# Altium footprint library PC110.PcbLib: 67 footprints (part 5 of 5)
Each footprint in its own frame and in the unit in brackets; x right, y up, seen from the top. Pads: shape width x height; smd on the part's side, far side on the other; paste and mask are expansions set on the pad; w line width, h text height; cw(c..) or ccw(c..) is an arc to the next point about the centre after c.
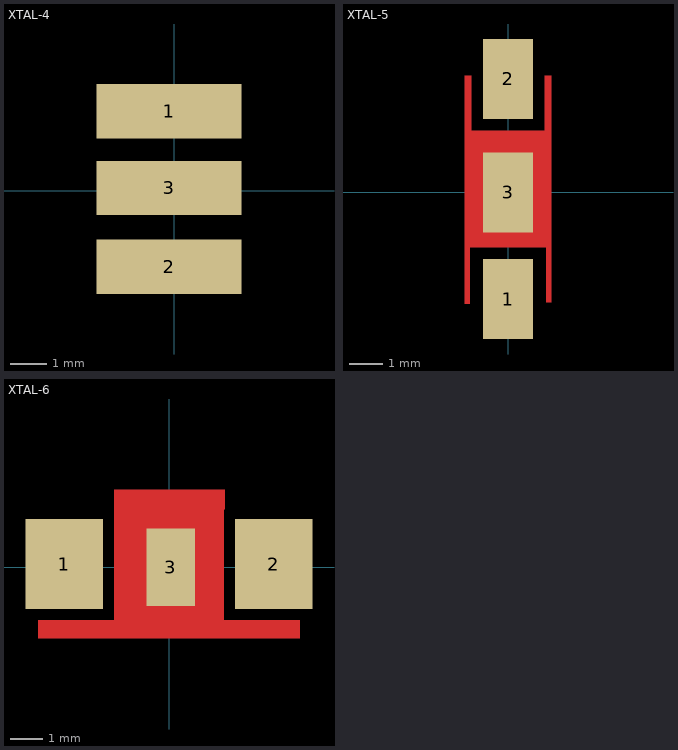
[diagram p4: the footprints below, top view; thin cyan lines are the x and y axes]

## XTAL-4 [mm]
pads (3):
  rect 4x1.5 smd: 1(-0.15,2.2) 2(-0.15,-2.1) 3(-0.15,0.08)

## XTAL-5 [mm]
pads (3):
  rect 1.5x2.4 smd: 1(0,-3.2) 2(0,3.4) 3(0,0)
F.Cu:
  region: 1.3,-3.3 1.15,-3.3 1.15,-1.65 -1.15,-1.65 -1.15,-3.35 -1.3,-3.35 -1.3,3.5 -1.1,3.5 -1.1,1.85 1.1,1.85 1.1,3.5 1.3,3.5

## XTAL-6 [mm]
pads (3):
  rect 2.4x2.8 smd: 1(-3.25,0.1) 2(3.25,0.1)
  rect 1.5x2.4 smd: 3(0.05,0)
F.Cu:
  region: 1.725,1.8 1.7,1.8 1.7,-1.65 4.05,-1.65 4.05,-2.2 -4.05,-2.2 -4.05,-1.65 -1.7,-1.65 -1.7,1.8 -1.7,2.4 1.725,2.4